# Altium schematic symbol library 3pin.SchLib: 1 symbol
Pins are listed as number, name and electrical type; pins without a type are passive.

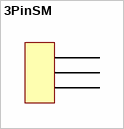
[diagram p0: symbol 3PinSM]

## 3PinSM
designator 3PinSM  (value not drawn)
footprint 4PinSM
pins: 3P1, 3P2, 3P3